# Altium integrated library Integrated_Library1.IntLib: 17 symbols
Pins are listed as number, name and electrical type; pins without a type are passive.

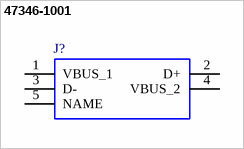
[diagram p0: symbol 47346-1001]

## 47346-1001
designator J?
MOLEX - micro B - MULTIPOLE CONNECTOR; Manufacturer_Name: Molex; Datasheet Link: http://www.molex.com/webdocs/datasheets/pdf/en-us/0473461001_IO_CONNECTORS.pdf
footprint 47346-0001
pins: 1 VBUS_1, 2 D+, 3 D-, 4 VBUS_2, 5 NAME


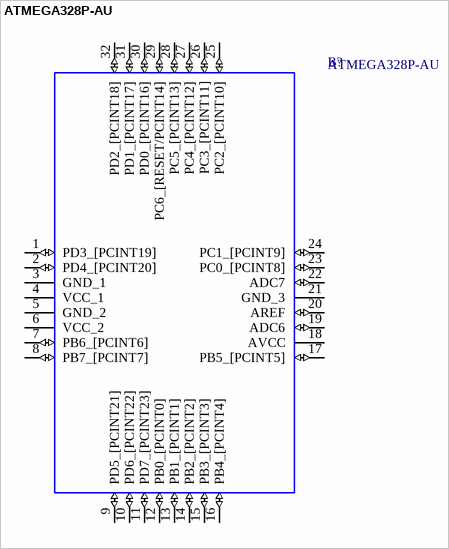
[diagram p1: symbol ATMEGA328P-AU]

## ATMEGA328P-AU
designator B?
MICROCHIP - ATMEGA328P-AU. - MICROCONTROLLER MCU, 8 BIT, ATMEGA, 20MHZ, TQFP-32; Geometry.Height: 1.2mm; Manufacturer_Name: Microchip; Manufacturer_Part_Number: ATMEGA328P-AU; RS Part Number: 1310271; RS Price/Stock: http://uk.rs-online.com/web/p/products/1310271; Arrow Part Number: ATMEGA328P-AU; Arrow Price/Stock: https://www.arrow.com/en/products/atmega328p-au/microchip-technology; Datasheet Link: https://componentsearchengine.com/Datasheets/2/ATMEGA328P-AU.pdf
footprint QFP80P900X900X120-32N
pins: 1 PD3_[PCINT19] (io), 2 PD4_[PCINT20] (io), 3 GND_1, 4 VCC_1 (power), 5 GND_2, 6 VCC_2 (power), 7 PB6_[PCINT6] (io), 8 PB7_[PCINT7] (io), 9 PD5_[PCINT21] (io), 10 PD6_[PCINT22] (io), 11 PD7_[PCINT23] (io), 12 PB0_[PCINT0] (io), 13 PB1_[PCINT1] (io), 14 PB2_[PCINT2] (io), 15 PB3_[PCINT3] (io), 16 PB4_[PCINT4] (io), 17 PB5_[PCINT5] (io), 18 AVCC (power), 19 ADC6 (io), 20 AREF (io), 21 GND_3, 22 ADC7 (io), 23 PC0_[PCINT8] (io), 24 PC1_[PCINT9] (io), 25 PC2_[PCINT10] (io), 26 PC3_[PCINT11] (io), 27 PC4_[PCINT12] (io), 28 PC5_[PCINT13] (io), 29 PC6_[RESET/PCINT14] (io), 30 PD0_[PCINT16] (io), 31 PD1_[PCINT17] (io), 32 PD2_[PCINT18] (io)


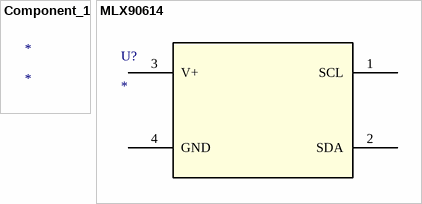
[diagram p2: symbols Component_1 to MLX90614]

## Component_1
designator *

## MLX90614
designator U?
Temp Sensor IR; Manufacturer_Part_Number: OP77FJZ; Vendor: Analog Devices Inc; Built_By: EMA_UL_Team; RefDes: RefDes; Type: DEV; Value: Value
footprint H_08_1
pins: 1 SCL, 2 SDA, 3 V+, 4 GND


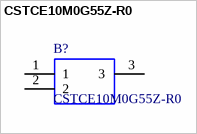
[diagram p3: symbol CSTCE10M0G55Z-R0]

## CSTCE10M0G55Z-R0
designator B?
Ceramic resonator SMT CSTCE 10.00MHz CSTCE10M0G55Z-R0, Ceramic Resonator, 10MHz Shear 33pF, 3-Pin Cap Chip, 3.2 x 1.3 x 0.7mm; Manufacturer_Name: Murata Electronics; Manufacturer_Part_Number: CSTCE10M0G55Z-R0; RS Part Number: 8119777; RS Price/Stock: http://uk.rs-online.com/web/p/products/8119777; Arrow Part Number: CSTCE10M0G55Z-R0; Arrow Price/Stock: https://www.arrow.com/en/products/cstce10m0g55z-r0/murata-manufacturing; Datasheet Link: http://uk.rs-online.com/web/p/products/1253205
footprint CSTCE_G
pins: 1, 2, 3


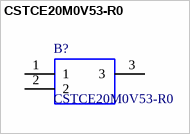
[diagram p4: symbol CSTCE20M0V53-R0]

## CSTCE20M0V53-R0
designator B?
SMT ceramic resonator 20.0MHz CSTCE20M0V53-R0, Ceramic Resonator, 20MHz Fundamental 15pF, 3-Pin Cap Chip, 3.2 x 1.3 x 0.7mm; Manufacturer_Name: Murata Electronics; Manufacturer_Part_Number: CSTCE20M0V53-R0; RS Part Number: 7214811P; RS Price/Stock: http://uk.rs-online.com/web/p/products/7214811P; Arrow Part Number: CSTCE20M0V53-R0; Arrow Price/Stock: https://www.arrow.com/en/products/cstce20m0v53-r0/murata-manufacturing; Datasheet Link: http://www.farnell.com/datasheets/45562.pdf
footprint CSTCE-V_1
pins: 1, 2, 3


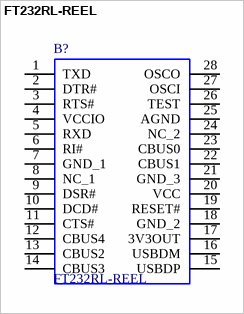
[diagram p5: symbol FT232RL-REEL]

## FT232RL-REEL
designator B?
USB/Serial IC UART SSOP-28 FTDI Chip FT232RL-REEL, USB Controller, 3MBd, USB 2.0, 1.8  5.25 V, 28-Pin SSOP; Allied_Number: 70069389; Geometry.Height: 2mm; Manufacturer_Name: FTDI Chip; Manufacturer_Part_Number: FT232RL-REEL; RS Part Number: 8888732; RS Price/Stock: http://uk.rs-online.com/web/p/products/8888732; Allied Price/Stock: https://www.alliedelec.com/ftdi-ft232rl-reel/70069389/; Arrow Part Number: FT232RL-REEL; Arrow Price/Stock: https://www.arrow.com/en/products/ft232rl-reel/ftdi-chip; Datasheet Link: http://www.ftdichip.com/Support/Documents/DataSheets/ICs/DS_FT232R.pdf
footprint SOP65P780X200-28N
pins: 1 TXD, 2 DTR#, 3 RTS#, 4 VCCIO, 5 RXD, 6 RI#, 7 GND_1, 8 NC_1, 9 DSR#, 10 DCD#, 11 CTS#, 12 CBUS4, 13 CBUS2, 14 CBUS3, 15 USBDP, 16 USBDM, 17 3V3OUT, 18 GND_2, 19 RESET#, 20 VCC, 21 GND_3, 22 CBUS1, 23 CBUS0, 24 NC_2, 25 AGND, 26 TEST, 27 OSCI, 28 OSCO


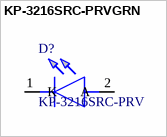
[diagram p6: symbol KP-3216SRC-PRVGRN]

## KP-3216SRC-PRVGRN
designator D?, comment KP-3216SRC-PRV
GRN 1206 clear chip-LED; Manufacturer_Name: Kingbright; Geometry.Height: 1.2mm; Manufacturer_Part_Number: KP-3216SRC-PRV; RS Part Number: 4663914P; RS Price/Stock: http://uk.rs-online.com/web/p/products/4663914P; Arrow Part Number: KP-3216SRC-PRV; Arrow Price/Stock: http://uk.rs-online.com/web/p/products/4663914P; Datasheet Link: http://uk.rs-online.com/web/p/products/4663914
footprint LEDC3216X120NGRN
pins: 1 K, 2 A


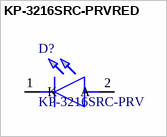
[diagram p7: symbol KP-3216SRC-PRVRED]

## KP-3216SRC-PRVRED
designator D?, comment KP-3216SRC-PRV
RED 1206 clear chip-LED; Manufacturer_Name: Kingbright; Geometry.Height: 1.2mm; Manufacturer_Part_Number: KP-3216SRC-PRV; RS Part Number: 4663914P; RS Price/Stock: http://uk.rs-online.com/web/p/products/4663914P; Arrow Part Number: KP-3216SRC-PRV; Arrow Price/Stock: http://uk.rs-online.com/web/p/products/4663914P; Datasheet Link: http://uk.rs-online.com/web/p/products/4663914
footprint LEDC3216X120NRED
pins: 1 K, 2 A


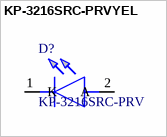
[diagram p8: symbol KP-3216SRC-PRVYEL]

## KP-3216SRC-PRVYEL
designator D?, comment KP-3216SRC-PRV
YEL 1206 clear chip-LED; Manufacturer_Name: Kingbright; Geometry.Height: 1.2mm; Manufacturer_Part_Number: KP-3216SRC-PRV; RS Part Number: 4663914P; RS Price/Stock: http://uk.rs-online.com/web/p/products/4663914P; Arrow Part Number: KP-3216SRC-PRV; Arrow Price/Stock: http://uk.rs-online.com/web/p/products/4663914P; Datasheet Link: http://uk.rs-online.com/web/p/products/4663914
footprint LEDC3216X120NYEL
pins: 1 K, 2 A


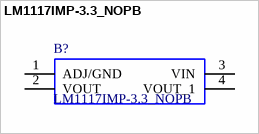
[diagram p9: symbol LM1117IMP-3.3_NOPB]

## LM1117IMP-3.3_NOPB
designator B?
LM1117IMP-3.3/NOPB, Low Dropout Voltage Regulator, 1.5A, 3.3 V 1%, 4-Pin SOT-223; Manufacturer_Name: Texas Instruments; Geometry.Height: 1.8mm; Manufacturer_Part_Number: LM1117IMP-3.3/NOPB; RS Part Number: 5358635P; RS Price/Stock: http://uk.rs-online.com/web/p/products/5358635P; Arrow Part Number: LM1117IMP-3.3/NOPB; Arrow Price/Stock: https://www.arrow.com/en/products/lm1117imp-3.3nopb/texas-instruments; Datasheet Link: http://docs-europe.electrocomponents.com/webdocs/05bb/0900766b805bb323.pdf
footprint SOT230P700X180-4N
pins: 1 ADJ/GND, 2 VOUT, 3 VIN, 4 VOUT_1


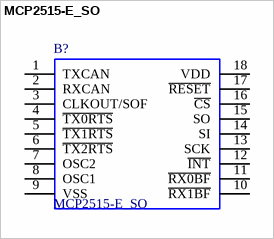
[diagram p10: symbol MCP2515-E_SO]

## MCP2515-E_SO
designator B?
CAN Controller with SPI,MCP2515-E/SO; Manufacturer_Name: Microchip; Allied_Number: 70413818; Geometry.Height: 2.65mm; Manufacturer_Part_Number: MCP2515-E/SO; RS Part Number: 6665739; RS Price/Stock: http://uk.rs-online.com/web/p/products/6665739; Allied Price/Stock: http://www.alliedelec.com/microchip-technology-inc-mcp2515-e-so/70413818/; Arrow Part Number: MCP2515-E/SO; Arrow Price/Stock: https://www.arrow.com/en/products/mcp2515-eso/microchip-technology; Datasheet Link: http://ww1.microchip.com/downloads/en/DeviceDoc/21801G.pdf
footprint SOIC127P1030X265-18N
pins: 1 TXCAN, 2 RXCAN, 3 CLKOUT/SOF, 4 ~{TX0RTS}, 5 ~{TX1RTS}, 6 ~{TX2RTS}, 7 OSC2, 8 OSC1, 9 VSS, 10 ~{RX1BF}, 11 ~{RX0BF}, 12 ~{INT}, 13 SCK, 14 SI, 15 SO, 16 ~{CS}, 17 ~{RESET}, 18 VDD (power)


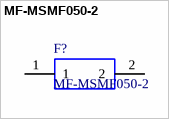
[diagram p11: symbol MF-MSMF050-2]

## MF-MSMF050-2
designator F?
Fuse, PTC, Resettable, SMD, 1812, 500mA Bourns 0.5A Surface Mount Resettable Fuse, 15 V; Allied_Number: 70153466; Geometry.Height: 0.85mm; Manufacturer_Name: Bourns; Manufacturer_Part_Number: MF-MSMF050-2; RS Part Number: 6478156P; RS Price/Stock: http://uk.rs-online.com/web/p/products/6478156P; Allied Price/Stock: https://www.alliedelec.com/bourns-mf-msmf050-2/70153466/; Arrow Part Number: MF-MSMF050-2; Arrow Price/Stock: https://www.arrow.com/en/products/mf-msmf050-2/bourns; Datasheet Link: https://www.bourns.com/pdfs/mfmsmf.pdf
footprint FUSC4632X85N
pins: 1, 2


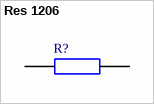
[diagram p12: symbol Res 1206]

## Res 1206
designator R?
Thick Film Resistors - SMD; Geometry.Height: 0.6mm
footprint RESC3216X60N
pins: 1, 2


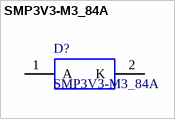
[diagram p13: symbol SMP3V3-M3_84A]

## SMP3V3-M3_84A
designator D?
Vishay SMP3V3-M3/84A Uni-Directional TVS Diode, 400W peak, 2-Pin DO-220AA; Allied_Number: 70617438; Manufacturer_Name: Vishay; Manufacturer_Part_Number: SMP3V3-M3/84A; RS Part Number: 8193888P; RS Price/Stock: http://uk.rs-online.com/web/p/products/8193888P; Allied Price/Stock: https://www.alliedelec.com/siliconix-vishay-smp3v3-m3-84a/70617438/; Arrow Part Number: SMP3V3-M3/84A; Arrow Price/Stock: https://www.arrow.com/en/products/smp3v3-m384a/vishay; Datasheet Link: http://www.vishay.com/docs/88481/smp3v3.pdf
footprint DO-220AA
pins: 1 A, 2 K


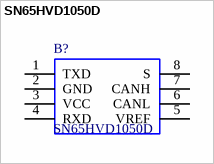
[diagram p14: symbol SN65HVD1050D]

## SN65HVD1050D
designator B?
CAN Transceiver 1Mbit/s ISO 11898, Silent-Mode, 8-Pin SOIC; Manufacturer_Name: Texas Instruments; Geometry.Height: 1.75mm; Manufacturer_Part_Number: SN65HVD1050D; RS Part Number: 0527855; RS Price/Stock: http://uk.rs-online.com/web/p/products/0527855; Arrow Part Number: SN65HVD1050D; Arrow Price/Stock: https://www.arrow.com/en/products/sn65hvd1050d/texas-instruments; Datasheet Link: http://docs-europe.electrocomponents.com/webdocs/0b77/0900766b80b773db.pdf
footprint SOIC127P600X175-8N
pins: 1 TXD, 2 GND, 3 VCC (power), 4 RXD, 5 VREF, 6 CANL, 7 CANH, 8 S


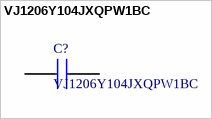
[diagram p15: symbol VJ1206Y104JXQPW1BC]

## VJ1206Y104JXQPW1BC
designator C?
Multilayer Ceramic Capacitors MLCC - SMD/SMT 1206 0.1uF 10volts X7R 5%; Manufacturer_Name: Vishay; Geometry.Height: 1.7mm; Manufacturer_Part_Number: VJ1206Y104JXQPW1BC; RS Part Number: *; RS Price/Stock: *; Arrow Part Number: VJ1206Y104JXQPW1BC; Arrow Price/Stock: *; Datasheet Link: http://www.vishay.com/docs/45200/vjhirelseries.pdf
footprint CAPC3216X170N
pins: 1, 2